# Altium footprint library FinalProjectPcbLib.PcbLib: 27 footprints (part 1 of 2)
Each footprint in its own frame and in the unit in brackets; x right, y up, seen from the top. Pads: shape width x height; smd on the part's side, far side on the other; paste and mask are expansions set on the pad; w line width, h text height; cw(c..) or ccw(c..) is an arc to the next point about the centre after c.
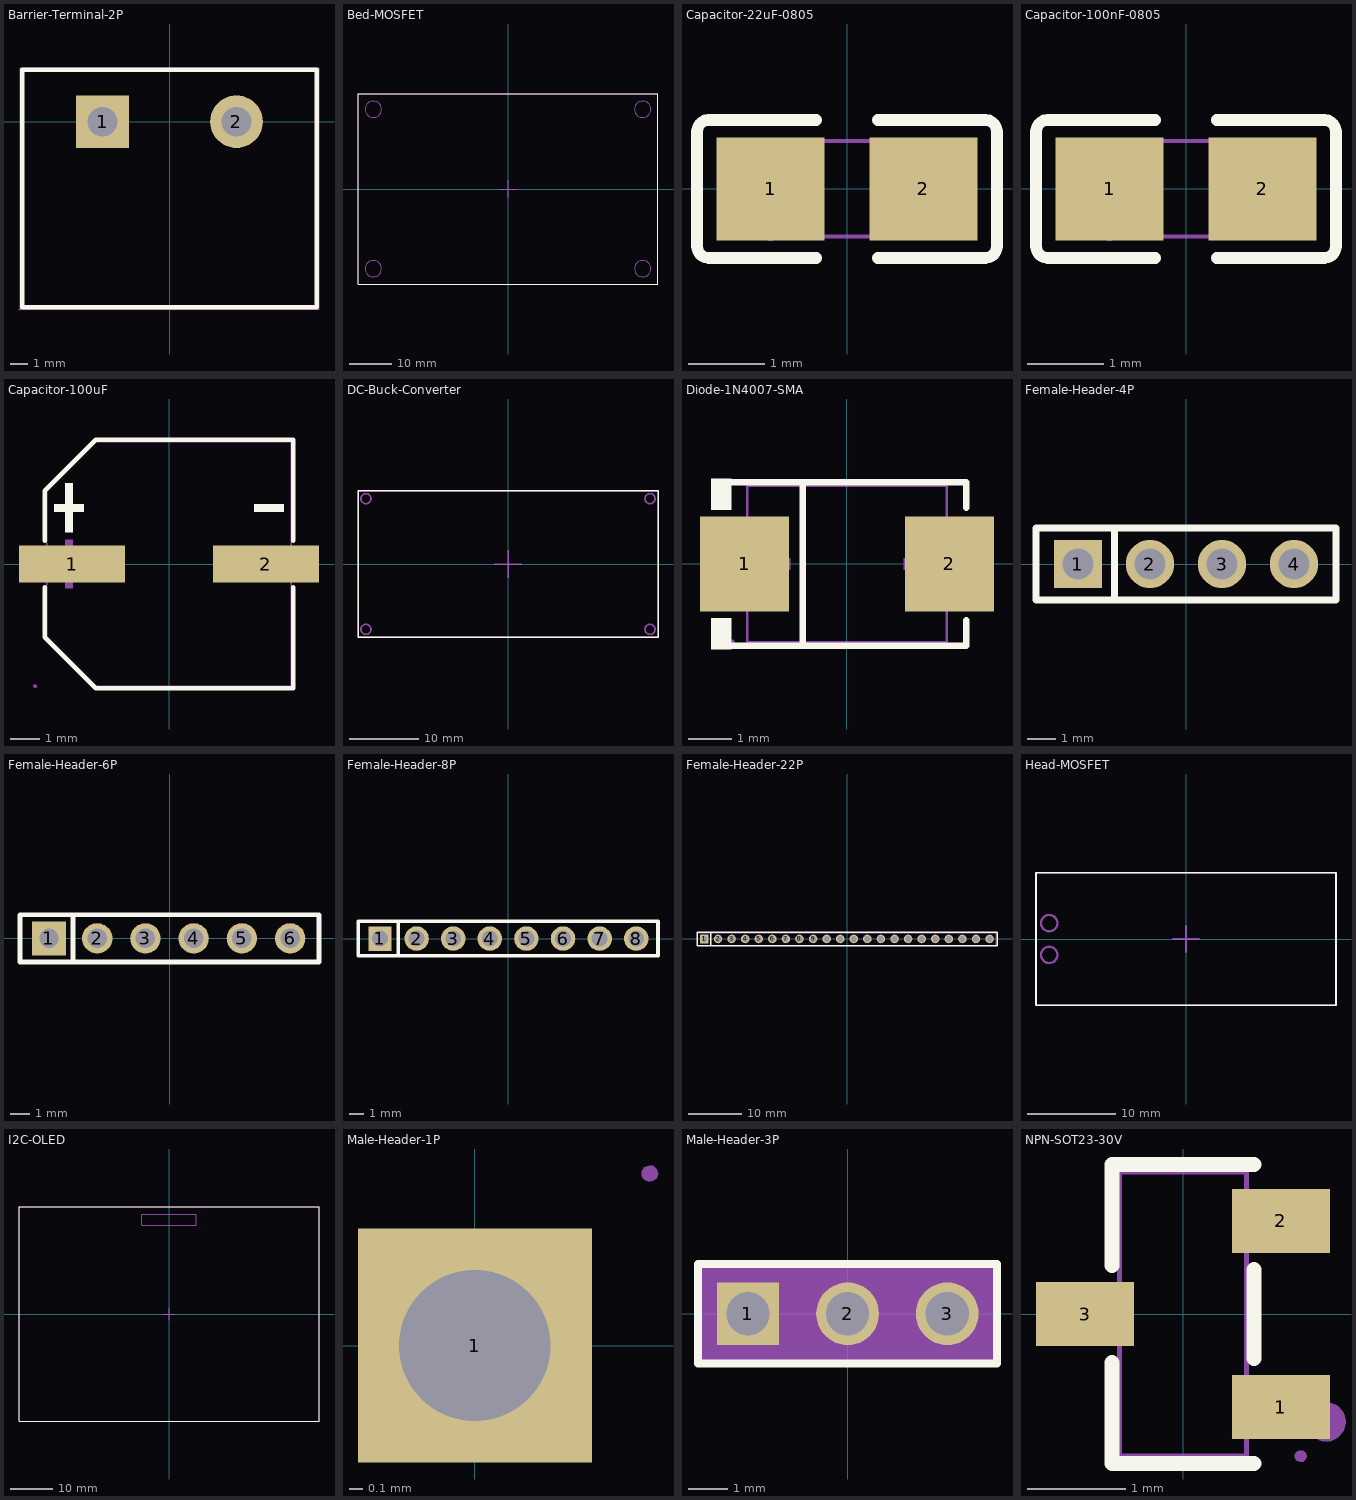
[diagram p0: the footprints below, top view; thin cyan lines are the x and y axes]

## Barrier-Terminal-2P [mil]
pads (2):
  rect 118.1x118.1 hole 66.9: 1(-150,0)
  round 118.1 hole 66.9: 2(150,0)
Top Overlay:
  lines w10: -329.9,-415.3 -329.9,116.2 329.9,116.2 329.9,-415.3 -329.9,-415.3
Bottom Assembly:
  lines w2: -334.9,-420.3 334.9,-420.3 334.9,121.2 -334.9,121.2 -334.9,-420.3
Bottom Component Center:
  region: -332.6,-420.3 -333,-421.6 -334,-422.5 -335.3,-422.7 -336.5,-422.1 -337.2,-421 -337.2,-419.7 -336.5,-418.6 -335.3,-418 -334,-418.2 -333,-419.1
Top Courtyard:
  region: 179.5,0 179.1,-4.7 178,-9.3 176.1,-13.7 173.6,-17.7 170.4,-21.3 166.8,-24.3 162.6,-26.7 158.2,-28.3 153.5,-29.3 148.8,-29.5 144.1,-28.9 139.5,-27.6 135.2,-25.6 131.3,-22.9 127.9,-19.6 125,-15.8 122.8,-11.6 121.3,-7.1 120.6,-2.4 120.6,2.4 121.3,7.1 122.8,11.6 125,15.8 127.9,19.6 131.3,22.9 135.2,25.6 139.5,27.6 144.1,28.9 148.8,29.5 153.5,29.3 158.2,28.4 162.6,26.7 166.8,24.3 170.4,21.3 173.6,17.7 176.1,13.7 178,9.4 179.1,4.7
  region: -120.5,0 -120.9,-4.7 -122,-9.3 -123.9,-13.7 -126.4,-17.7 -129.6,-21.3 -133.2,-24.3 -137.4,-26.7 -141.8,-28.3 -146.5,-29.3 -151.2,-29.5 -155.9,-28.9 -160.5,-27.6 -164.8,-25.6 -168.7,-22.9 -172.1,-19.6 -175,-15.8 -177.2,-11.6 -178.7,-7.1 -179.4,-2.4 -179.4,2.4 -178.7,7.1 -177.2,11.6 -175,15.8 -172.1,19.6 -168.7,22.9 -164.8,25.6 -160.5,27.6 -155.9,28.9 -151.2,29.5 -146.5,29.3 -141.8,28.4 -137.4,26.7 -133.2,24.3 -129.6,21.3 -126.4,17.7 -123.9,13.7 -122,9.4 -120.9,4.7

## Bed-MOSFET [mil]
Top Overlay:
  lines w8: -1385.83,-877.95 -1385.83,877.95 1385.83,877.95 1385.83,-877.95 -1385.83,-877.95
  text ".Designator" at -1377.83,902.61 h50
Guide Lines:
  circle w10: c-1244.09,736.22 r75.79
  circle w10: c1244.09,736.22 r75.79
  circle w10: c-1244.09,-736.22 r75.79
  circle w10: c1244.09,-736.22 r75.79
Top Assembly:
  lines w8: -1385.83,-877.95 -1385.83,877.95 1385.83,877.95 1385.83,-877.95 -1385.83,-877.95
Top Component Center:
  lines w8: -78.74,0 0,0 ; 0,-78.74 0,0 ; 0,78.74 0,0 ; 78.74,0 0,0

## Capacitor-22uF-0805 [mil]
pads (2):
  rect 55.5x53.1 smd paste-3937 mask+2: 1(-39.4,0) 2(39.4,0)
Top Overlay:
  lines w6: -15.8,-35.6 -71.3,-35.6 -73.2,-35.3 -74.8,-34.5 -76.2,-33.1 -77,-31.5 -77.3,-29.6 -77.3,29.5 -77,31.4 -76.2,33.1 -74.8,34.4 -73.2,35.3 -71.3,35.5 -15.8,35.5 ; 15.8,-35.6 71.3,-35.6 73.2,-35.3 74.8,-34.5 76.2,-33.1 77,-31.5 77.3,-29.6 77.3,29.5 77,31.4 76.2,33.1 74.8,34.4 73.2,35.3 71.3,35.5 15.8,35.5
Top Paste:
  region: 67.1,25.2 67.1,-25.2 65.2,-27.2 19.9,-27.2 17.9,-25.2 17.7,-9.1 35.4,-9.1 35.4,8.6 18.1,8.6 17.9,25.2 19.9,27.1 65.2,27.1
  region: -67.1,-25.2 -67.1,25.2 -65.1,27.1 -19.9,27.1 -17.9,25.2 -17.7,9 -35.4,9 -35.4,-8.7 -18.1,-8.7 -17.9,-25.2 -19.9,-27.2 -65.1,-27.2
Top Courtyard:
  lines w2: -39.4,-24.6 39.4,-24.6 39.4,24.6 -39.4,24.6 -39.4,-24.6
Mechanical 8:
  region: -37,-24.6 -37.4,-25.9 -38.4,-26.8 -39.7,-27 -40.9,-26.4 -41.6,-25.3 -41.6,-24 -40.9,-22.9 -39.7,-22.3 -38.4,-22.5 -37.4,-23.4
Mechanical 9:
  region: 39.4,24.6 39.4,-24.6 19.7,-24.6 19.7,24.6
  region: -39.4,-24.6 -39.4,24.6 -19.7,24.6 -19.7,-24.6

## Capacitor-100nF-0805 [mil]
pads (2):
  rect 55.5x53.1 smd paste-3937 mask+2: 1(-39.4,0) 2(39.4,0)
Top Overlay:
  lines w6: -15.8,-35.6 -71.3,-35.6 -73.2,-35.3 -74.8,-34.5 -76.2,-33.1 -77,-31.5 -77.3,-29.6 -77.3,29.5 -77,31.4 -76.2,33.1 -74.8,34.4 -73.2,35.3 -71.3,35.5 -15.8,35.5 ; 15.8,-35.6 71.3,-35.6 73.2,-35.3 74.8,-34.5 76.2,-33.1 77,-31.5 77.3,-29.6 77.3,29.5 77,31.4 76.2,33.1 74.8,34.4 73.2,35.3 71.3,35.5 15.8,35.5
Top Paste:
  region: 67.1,25.2 67.1,-25.2 65.2,-27.2 19.9,-27.2 17.9,-25.2 17.7,-9.1 35.4,-9.1 35.4,8.6 18.1,8.6 17.9,25.2 19.9,27.1 65.2,27.1
  region: -67.1,-25.2 -67.1,25.2 -65.1,27.1 -19.9,27.1 -17.9,25.2 -17.7,9 -35.4,9 -35.4,-8.7 -18.1,-8.7 -17.9,-25.2 -19.9,-27.2 -65.1,-27.2
Top Courtyard:
  lines w2: -39.4,-24.6 39.4,-24.6 39.4,24.6 -39.4,24.6 -39.4,-24.6
Mechanical 8:
  region: -37,-24.6 -37.4,-25.9 -38.4,-26.8 -39.7,-27 -40.9,-26.4 -41.6,-25.3 -41.6,-24 -40.9,-22.9 -39.7,-22.3 -38.4,-22.5 -37.4,-23.4
Mechanical 9:
  region: 39.4,24.6 39.4,-24.6 19.7,-24.6 19.7,24.6
  region: -39.4,-24.6 -39.4,24.6 -19.7,24.6 -19.7,-24.6

## Capacitor-100uF [mil]
pads (2):
  rect 142.1x49.6 smd: 1(-129.7,0) 2(129.7,0)
Top Overlay:
  region: 153.6,70.2 153.6,80 114.4,80 114.4,70.2
  region: -153.6,70.2 -153.6,80 -114.4,80 -114.4,70.2
  region: -138.9,42.5 -138.9,107.8 -129.1,107.8 -129.1,42.5
  lines w6: -166.4,-30.8 -166.4,-98 -98,-166.4 166.4,-166.4 166.4,-30.8 ; -166.4,30.8 -166.4,98 -98,166.4 166.4,166.4 166.4,30.8
Top Assembly:
  region: 153.6,-4.9 153.6,4.9 114.4,4.9 114.4,-4.9
  region: -153.6,-4.9 -153.6,4.9 -114.4,4.9 -114.4,-4.9
  region: -138.9,-32.7 -138.9,32.7 -129.1,32.7 -129.1,-32.7
Top Courtyard:
  lines w2: -163.4,-98 -163.4,98 -98,163.4 163.4,163.4 163.4,-163.4 -98,-163.4 -163.4,-98
Mechanical 8:
  region: -176.8,-163.4 -177.2,-164.7 -178.2,-165.6 -179.5,-165.7 -180.7,-165.2 -181.4,-164.1 -181.4,-162.7 -180.7,-161.6 -179.5,-161.1 -178.2,-161.3 -177.2,-162.1
Mechanical 9:
  region: 179.1,-13.8 64.9,-13.8 64.9,13.8 179.1,13.8
  region: -65,-13.8 -179.1,-13.8 -179.1,13.8 -65,13.8

## DC-Buck-Converter [mil]
Top Overlay:
  lines w8: -854.33,-417.32 854.33,-417.32 854.33,417.32 -854.33,417.32 -854.33,-417.32
  text ".Designator" at -846.33,441.98 h50
Guide Lines:
  circle w10: c809.06,-372.05 r28.54
  circle w10: c809.06,372.05 r28.54
  circle w10: c-809.06,-372.05 r28.54
  circle w10: c-809.06,372.05 r28.54
Top Assembly:
  lines w8: -854.33,-417.32 -854.33,417.32 854.33,417.32 854.33,-417.32 -854.33,-417.32
Top Component Center:
  lines w8: -78.74,0 78.74,0 ; 0,-78.74 0,78.74

## Diode-1N4007-SMA [mil]
pads (2):
  rect 80.6x86.3 smd: 1(-92.9,0) 2(93,0)
Top Overlay:
  region: -105,-77.3 -105,-49.2 -123,-49.2 -123,-77.3
  region: -105,77.2 -105,49.1 -123,49.1 -123,77.2
  lines w6: -108,-74.3 108.1,-74.3 108.1,-51.2 ; -108,74.2 108.1,74.2 108.1,51.1 ; -40,-74.3 -40,74.2
Top Assembly:
  region: 78.3,-35.7 78.3,35.6 67.7,35.6 67.7,-35.7
  region: 94.4,-5.4 94.4,5.3 51.6,5.3 51.6,-5.4
  region: -94.3,-5.4 -94.3,5.3 -51.5,5.3 -51.5,-5.4
Top Courtyard:
  lines w2: -90.5,-70.9 90.6,-70.9 90.6,70.8 -90.5,70.8 -90.5,-70.9
Mechanical 8:
  region: -101.9,-70.9 -102.3,-72.2 -103.3,-73.1 -104.6,-73.2 -105.8,-72.7 -106.5,-71.6 -106.5,-70.2 -105.8,-69.1 -104.6,-68.6 -103.3,-68.8 -102.3,-69.6
Mechanical 9:
  region: 104.4,-40 104.4,39.9 59.5,39.9 59.5,-40
  region: -104.3,-40 -104.3,39.9 -59.4,39.9 -59.4,-40

## Female-Header-4P [mm]
pads (4):
  rect 1.7x1.7 hole 1.1 paste+0 mask+0.051: 1(-3.81,0)
  round 1.7 hole 1.1 paste+0 mask+0.051: 2(-1.27,0) 3(1.27,0) 4(3.81,0)
Top Overlay:
  lines w0.254: -2.516,-1.27 -2.516,1.27 ; -5.29,-1.27 5.29,-1.27 5.29,1.27 -5.29,1.27 -5.29,-1.27

## Female-Header-6P [mil]
pads (6):
  rect 70.9x70.9 hole 40.2: 1(-250,0)
  round 63 hole 40.2: 2(-150,0) 3(-50,0) 4(50,0) 5(150,0) 6(250,0)
Top Overlay:
  lines w10: -200,-49.2 -200,49.2 ; -309.8,-49.2 309.8,-49.2 309.8,49.2 -309.8,49.2 -309.8,-49.2
Top Courtyard:
  lines w2: -309.8,-49.2 -309.8,49.2 309.8,49.2 309.8,-49.2 -309.8,-49.2
Mechanical 8:
  region: -307.5,-49.2 -307.9,-50.5 -308.9,-51.4 -310.2,-51.6 -311.4,-51 -312.1,-49.9 -312.1,-48.6 -311.4,-47.5 -310.2,-46.9 -308.9,-47.1 -307.9,-48
Mechanical 9:
  region: -262.6,5.9 -237.4,5.9 -237.4,-5.9 -262.6,-5.9
  region: -162.6,5.9 -137.4,5.9 -137.4,-5.9 -162.6,-5.9
  region: -62.6,5.9 -37.4,5.9 -37.4,-5.9 -62.6,-5.9
  region: 37.4,5.9 62.6,5.9 62.6,-5.9 37.4,-5.9
  region: 137.4,5.9 162.6,5.9 162.6,-5.9 137.4,-5.9
  region: 237.4,5.9 262.6,5.9 262.6,-5.9 237.4,-5.9

## Female-Header-8P [mil]
pads (8):
  rect 62x66.9 hole 43.3: 1(-350,0)
  round 66.9 hole 43.3: 2(-250,0) 3(-150,0) 4(-50,0) 5(50,0) 6(150,0) 7(250,0) 8(350,0)
Top Overlay:
  lines w10: -300,-45 -300,45 ; -409.4,-47.2 -409.4,47.2 409.5,47.2 409.5,-47.2 -409.4,-47.2
Top Courtyard:
  lines w2: -407.8,-47.2 -407.8,47.2 407.9,47.2 407.9,-47.2 -407.8,-47.2
Mechanical 8:
  region: -405.5,-47.2 -405.9,-48.5 -406.9,-49.4 -408.2,-49.6 -409.4,-49 -410.1,-47.9 -410.1,-46.6 -409.4,-45.5 -408.2,-44.9 -406.9,-45.1 -405.9,-46
Mechanical 9:
  region: 338.2,7.9 361.8,7.9 361.8,-7.9 338.2,-7.9
  region: 238.2,7.9 261.8,7.9 261.8,-7.9 238.2,-7.9
  region: 138.2,7.9 161.8,7.9 161.8,-7.9 138.2,-7.9
  region: 38.2,7.9 61.8,7.9 61.8,-7.9 38.2,-7.9
  region: -61.8,7.9 -38.2,7.9 -38.2,-7.9 -61.8,-7.9
  region: -161.8,7.9 -138.2,7.9 -138.2,-7.9 -161.8,-7.9
  region: -261.8,7.9 -238.2,7.9 -238.2,-7.9 -261.8,-7.9
  region: -361.8,-7.9 -361.8,7.9 -338.2,7.9 -338.2,-7.9

## Female-Header-22P [mil]
pads (22):
  rect 63x63 hole 41.3: 1(-1050,0)
  round 63 hole 41.3: 2(-950,0) 3(-850,0) 4(-750,0) 5(-650,0) 6(-550,0) 7(-450,0) 8(-350,0) 9(-250,0) 10(-150,0) 11(-50,0) 12(50,0) 13(150,0) 14(250,0) 15(350,0) 16(450,0) 17(550,0) 18(650,0) 19(750,0) 20(850,0) 21(950,0) 22(1050,0)
Top Overlay:
  lines w10: -1003.6,-49.2 -1003.6,49.2 ; -1104.7,-49.2 1104.7,-49.2 1104.7,49.2 -1104.7,49.2 -1104.7,-49.2
Top Courtyard:
  lines w2: -1100,-47.2 1100,-47.2 1100,47.2 -1100,47.2 -1100,-47.2
Mechanical 8:
  region: -1097.6,-47.2 -1098,-48.5 -1099,-49.4 -1100.3,-49.6 -1101.5,-49 -1102.2,-47.9 -1102.2,-46.6 -1101.5,-45.5 -1100.3,-44.9 -1099,-45.1 -1098,-46
Mechanical 9:
  region: -1062.6,7.9 -1037.4,7.9 -1037.4,-7.9 -1062.6,-7.9
  region: -962.6,7.9 -937.4,7.9 -937.4,-7.9 -962.6,-7.9
  region: -862.6,7.9 -837.4,7.9 -837.4,-7.9 -862.6,-7.9
  region: -762.6,7.9 -737.4,7.9 -737.4,-7.9 -762.6,-7.9
  region: -662.6,7.9 -637.4,7.9 -637.4,-7.9 -662.6,-7.9
  region: -562.6,7.9 -537.4,7.9 -537.4,-7.9 -562.6,-7.9
  region: -462.6,7.9 -437.4,7.9 -437.4,-7.9 -462.6,-7.9
  region: -362.6,7.9 -337.4,7.9 -337.4,-7.9 -362.6,-7.9
  region: -262.6,7.9 -237.4,7.9 -237.4,-7.9 -262.6,-7.9
  region: -162.6,7.9 -137.4,7.9 -137.4,-7.9 -162.6,-7.9
  region: -62.6,7.9 -37.4,7.9 -37.4,-7.9 -62.6,-7.9
  region: 37.4,7.9 62.6,7.9 62.6,-7.9 37.4,-7.9
  region: 137.4,7.9 162.6,7.9 162.6,-7.9 137.4,-7.9
  region: 237.4,7.9 262.6,7.9 262.6,-7.9 237.4,-7.9
  region: 337.4,7.9 362.6,7.9 362.6,-7.9 337.4,-7.9
  region: 437.4,7.9 462.6,7.9 462.6,-7.9 437.4,-7.9
  region: 537.4,7.9 562.6,7.9 562.6,-7.9 537.4,-7.9
  region: 637.4,7.9 662.6,7.9 662.6,-7.9 637.4,-7.9
  region: 737.4,7.9 762.6,7.9 762.6,-7.9 737.4,-7.9
  region: 837.4,7.9 862.6,7.9 862.6,-7.9 837.4,-7.9
  region: 937.4,7.9 962.6,7.9 962.6,-7.9 937.4,-7.9
  region: 1037.4,7.9 1062.6,7.9 1062.6,-7.9 1037.4,-7.9

## Head-MOSFET [mil]
Top Overlay:
  lines w8: -669.29,-295.28 669.29,-295.28 669.29,295.28 -669.29,295.28 -669.29,-295.28
  text ".Designator" at -661.29,319.94 h50
Guide Lines:
  circle w10: c-610.24,-70.87 r36.42
  circle w10: c-610.24,70.87 r36.42
Top Assembly:
  lines w8: -669.29,-295.28 669.29,-295.28 669.29,295.28 -669.29,295.28 -669.29,-295.28
Top Component Center:
  lines w8: -59.06,0 0,0 ; 0,-59.06 0,0 ; 0,59.06 0,0 ; 59.06,0 0,0

## I2C-OLED [mil]
Top Overlay:
  lines w8: -1377.95,-984.25 -1377.95,984.25 1377.95,984.25 1377.95,-984.25 -1377.95,-984.25
  text ".Designator" at -1369.95,1008.91 h50
Guide Lines:
  lines w6: -250,816.14 250,816.14 250,916.14 -250,916.14 -250,816.14
Top Assembly:
  lines w8: -1377.95,-984.25 -1377.95,984.25 1377.95,984.25 1377.95,-984.25 -1377.95,-984.25
Top Component Center:
  lines w8: -59.06,0 0,0 ; 0,-59.06 0,0 ; 0,57.09 0,0 ; 59.06,0 0,0

## Male-Header-1P [mil]
pads (1):
  rect 66.9x66.9 hole 43.3: 1(0,0)
Mechanical 8:
  region: 52.4,49.2 52,47.9 51,47.1 49.7,46.9 48.5,47.4 47.7,48.5 47.7,49.9 48.5,51 49.7,51.5 51,51.4 52,50.5
Mechanical 9:
  region: -12.8,-12.8 -12.8,12.8 12.8,12.8 12.8,-12.8

## Male-Header-3P [mil]
pads (3):
  rect 62x63 hole 43.3 paste+0 mask+2: 1(-100,0)
  round 63 hole 43.3 paste+0 mask+2: 2(0,0) 3(100,0)
Top Overlay:
  lines w8: -150,-50 -150,50 -75,50 150,50 150,-50 -150,-50
Mechanical 9:
  region: -150,-49.2 -150,49.2 150,49.2 150,-49.2
Mechanical 11:
  region: -148.8,-49.2 -149.2,-50.1 -150,-50.4 -150.9,-50.1 -151.2,-49.2 -150.9,-48.4 -150,-48 -149.2,-48.4
Mechanical 12:
  region: 87.4,12.6 112.6,12.6 112.6,-12.6 87.4,-12.6
  region: -12.6,12.6 12.6,12.6 12.6,-12.6 -12.6,-12.6
  region: -112.6,12.6 -87.4,12.6 -87.4,-12.6 -112.6,-12.6

## NPN-SOT23-30V [mil]
pads (3):
  rect 39.4x25.6 smd: 1(39.3,-37.4) 2(39.3,37.4) 3(-39.4,0)
Top Overlay:
  lines w6: -28.6,-19.5 -28.6,-60.1 28.5,-60.1 ; -28.6,19.5 -28.6,60.1 28.5,60.1 ; 28.5,-17.9 28.5,17.9
Top Assembly:
  lines w7.9: 53.5,-43.3 53.9,-41.6 55,-40.2 56.6,-39.5 58.3,-39.5 59.9,-40.2 61,-41.6 61.4,-43.3 61,-45 59.9,-46.4 58.3,-47.2 56.6,-47.2 55,-46.4 53.9,-45 53.5,-43.3
Top Courtyard:
  lines w2: -25.6,-57.1 25.5,-57.1 25.5,57.1 -25.6,57.1 -25.6,-57.1
Bottom Courtyard:
  region: -35.9,-8.5 -35.9,8.5 -25.2,8.5 -25.2,-8.5
  region: 25.2,-45.9 25.2,-28.9 35.8,-28.9 35.8,-45.9
  region: 25.2,28.9 25.2,45.9 35.8,45.9 35.8,28.9
Mechanical 8:
  region: 49.6,-57.1 49.2,-58.4 48.2,-59.3 46.9,-59.4 45.6,-58.9 44.9,-57.8 44.9,-56.4 45.6,-55.3 46.9,-54.8 48.2,-55 49.2,-55.8
Mechanical 9:
  region: -47.3,-8.5 -47.3,8.5 -35.5,8.5 -35.5,-8.5
  region: 35.4,-45.9 35.4,-28.9 47.2,-28.9 47.2,-45.9
  region: 35.4,28.9 35.4,45.9 47.2,45.9 47.2,28.9